# EAGLE library part MMA8452Q (library CattleFit)
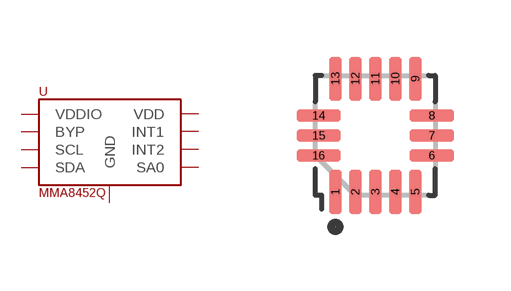
[diagram p1: symbol with the pads of QFN50P300X300X100-16; footprint QFN50P300X300X100-16]

Designator prefix -

## MMA8452Q (DESCRIPTION: 3-axis (X,Y,Z) Accelerometer, +/-2g ~ 8g, I2C; MANUFACTURER: Freescale Semiconductor; PARTNO: MMA8452Q; VALUE: MMA8452Q)  [QFN50P300X300X100-16]
1  VDDIO
2  BYP
4  SCL
5  GND
6  SDA
7  SA0
9  INT2
11  INT1
12  GND
14  VDD

## Footprint QFN50P300X300X100-16 (pad centres in mm)
Quad Flat No-Lead (QFN), 0.50 mm pitch; square, 5 pin X 3 pin, 3.00 mm L X 3.00 mm W X 1.00 mm H body PCB Libraries Packages
smd 0.305 x 1.1: 1 -1,-1.419; 2 -0.5,-1.419; 3 0,-1.419; 4 0.5,-1.419; 5 1,-1.419; 9 1,1.419; 10 0.5,1.419; 11 0,1.419; 12 -0.5,1.419; 13 -1,1.419
smd 1.1 x 0.305: 6 1.419,-0.5; 7 1.419,0; 8 1.419,0.5; 14 -1.419,0.5; 15 -1.419,0; 16 -1.419,-0.5